# Altium schematic symbol library MM3Z5V6B.SchLib: 1 symbol
Pins are listed as number, name and electrical type; pins without a type are passive.

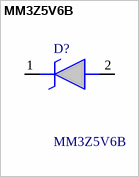
[diagram p0: symbol MM3Z5V6B]

## MM3Z5V6B
designator D?
Wide Zener Voltage Range Selection, 2.4V to 75V; VZ Tolerance Selection of +/-2% (B Series); Very Small and Thin SMD package; Matte Tin(Sn) finish, Pb Free; Manufacturer_Name: onsemi; Geometry.Height: 0.9mm; Mouser Part Number: 512-MM3Z5V6B; Mouser Price/Stock: https://www.mouser.co.uk/ProductDetail/onsemi-Fairchild/MM3Z5V6B?qs=rXqtSHp76q4LY1TDZO3VJw%3D%3D; Manufacturer_Part_Number: MM3Z5V6B; Datasheet Link: https://www.onsemi.com/download/data-sheet/pdf/mm3z9v1b-d.pdf
footprint SODFL2512X90N
pins: 1 K, 2 A